# Altium integrated library ADM6711.IntLib: 1 symbol
Pins are listed as number, name and electrical type; pins without a type are passive.

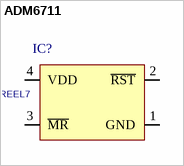
[diagram p0: symbol ADM6711]

## ADM6711
designator IC?, comment ADM6711SAKSZ-REEL7
ID: ADM6711SAKSZ-REEL7; PDF: http://www.analog.com/static/imported-files/data_sheets/ADM6711_6713.pdf; PRICE: 0.89000; BUY_LINK: http://www.digikey.com/product-detail/en/ADM6711SAKSZ-REEL7/ADM6711SAKSZ-REEL7CT-ND/2467758
footprint SC70-4
pins: 1 GND, 2 ~{RST}, 3 ~{MR}, 4 VDD